# Altium footprint library Connectors.PcbLib: 147 footprints (part 4 of 10)
Each footprint in its own frame and in the unit in brackets; x right, y up, seen from the top. Pads: shape width x height; smd on the part's side, far side on the other; paste and mask are expansions set on the pad; w line width, h text height; cw(c..) or ccw(c..) is an arc to the next point about the centre after c.
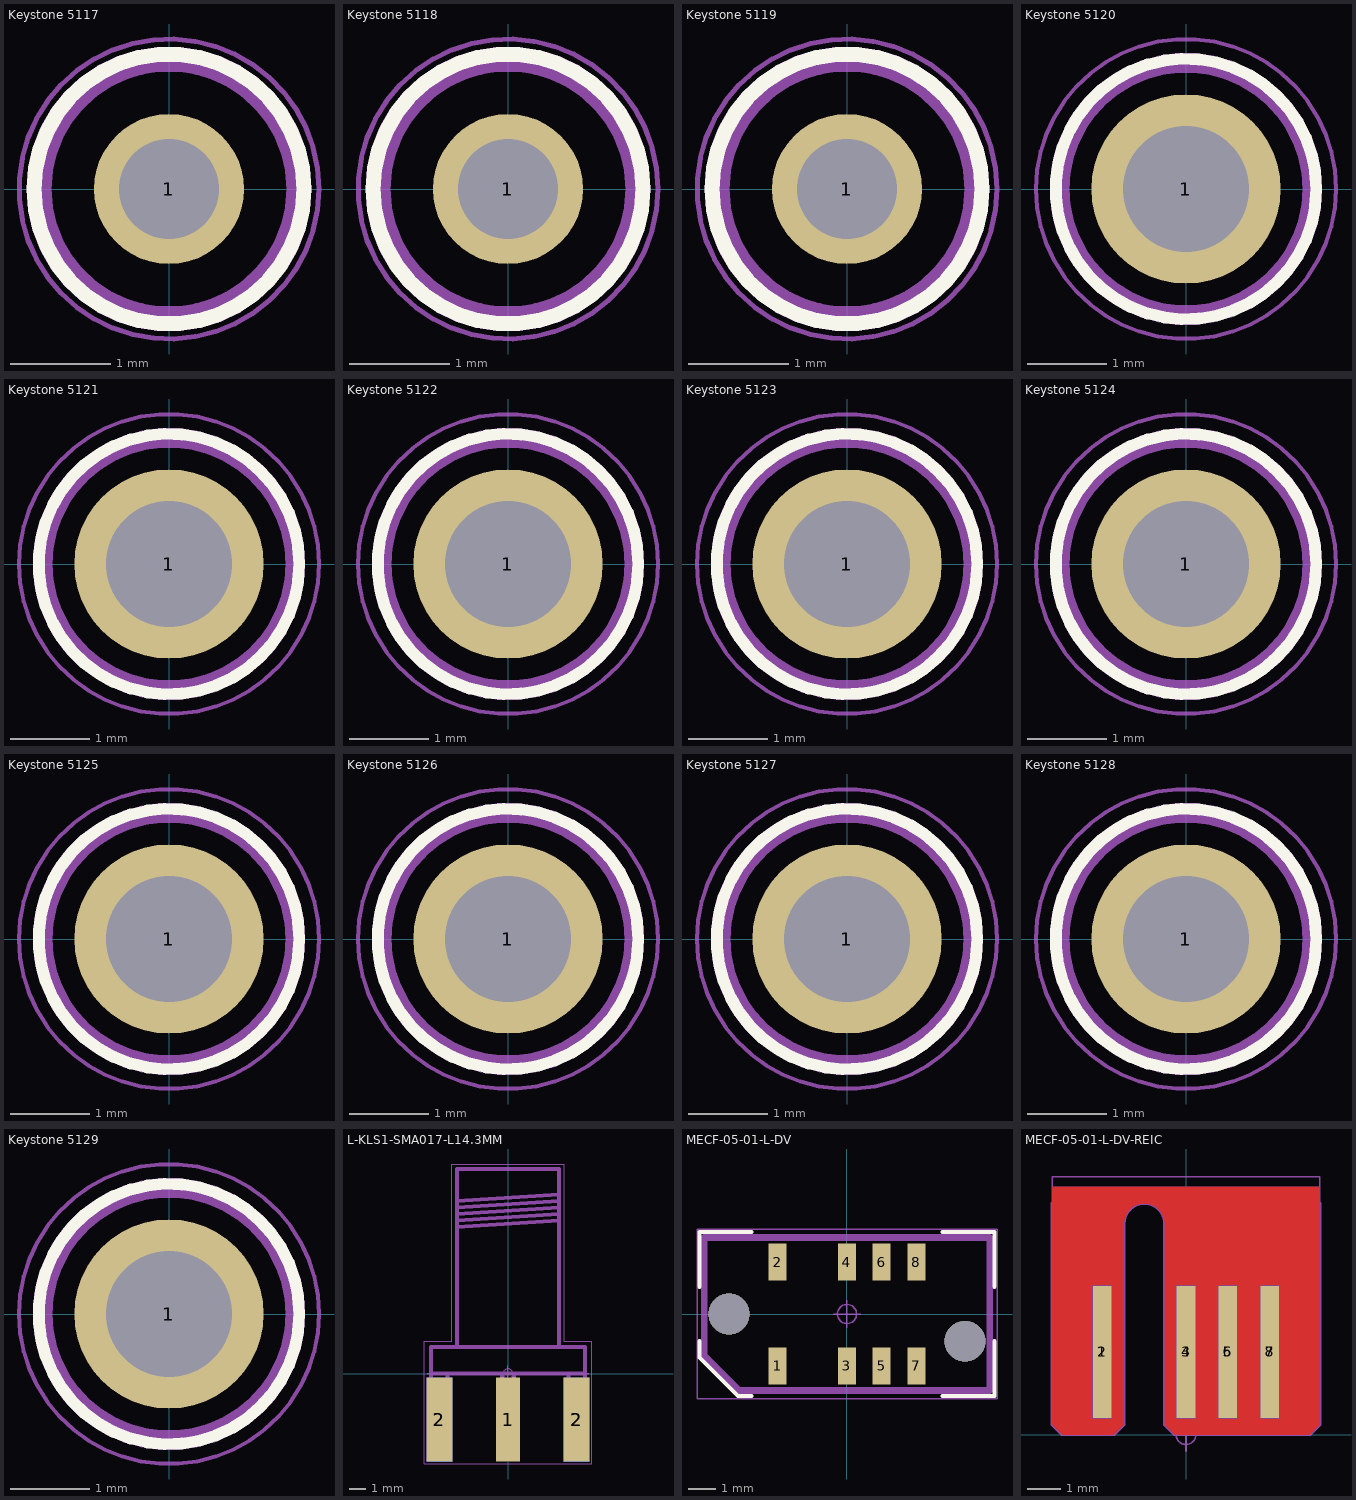
[diagram p3: the footprints below, top view; thin cyan lines are the x and y axes]

## Keystone 5117 [mm] "Thru Hole Mount Test Point, Miniature, .010 (.25) ? .020 (.51) Phosphor Bronze, Silver Plate, Nylon 46, UL Rated 94V-0, .040 (1.0) Diameter, Blue"
height 4.6
pads (1):
  round 1.5 hole 1: 1(0,0)
Top Overlay:
  circle w0.15: c0,0 r1.35
Top Assembly:
  circle w0.25: c0,0 r1.3
  text ".Designator" at -3.378,-0.339 h1.5
Top Courtyard:
  circle w0.05: c0,0 r1.5
  circle w0.05: c0,0 r0.35
  lines w0.05: -0.5,0 0.5,0 ; 0,-0.5 0,0.5
3D body "5117--3DModel-STEP-630548.STEP": height 4.63, standoff -2.99, extent -1.261,-1.27 1.261,1.27

## Keystone 5118 [mm] "Thru Hole Mount Test Point, Miniature, .010 (.25) ? .020 (.51) Phosphor Bronze, Silver Plate, Nylon 46, UL Rated 94V-0, .040 (1.0) Diameter, Grey"
height 4.6
pads (1):
  round 1.5 hole 1: 1(0,0)
Top Overlay:
  circle w0.15: c0,0 r1.35
Top Assembly:
  circle w0.25: c0,0 r1.3
  text ".Designator" at -3.378,-0.339 h1.5
Top Courtyard:
  circle w0.05: c0,0 r0.35
  circle w0.05: c0,0 r1.5
  lines w0.05: -0.5,0 0.5,0 ; 0,-0.5 0,0.5
3D body "5118--3DModel-STEP-630548.STEP": height 4.63, standoff -2.99, extent -1.261,-1.27 1.261,1.27

## Keystone 5119 [mm] "Thru Hole Mount Test Point, Miniature, .010 (.25) ? .020 (.51) Phosphor Bronze, Silver Plate, Nylon 46, UL Rated 94V-0, .040 (1.0) Diameter, Purple"
height 4.6
pads (1):
  round 1.5 hole 1: 1(0,0)
Top Overlay:
  circle w0.15: c0,0 r1.35
Top Assembly:
  circle w0.25: c0,0 r1.3
  text ".Designator" at -3.378,-0.339 h1.5
Top Courtyard:
  circle w0.05: c0,0 r0.35
  circle w0.05: c0,0 r1.5
  lines w0.05: -0.5,0 0.5,0 ; 0,-0.5 0,0.5
3D body "5119--3DModel-STEP-630548.STEP": height 4.63, standoff -2.99, extent -1.261,-1.27 1.261,1.27

## Keystone 5120 [mm] "Thru Hole Mount Test Point, Compact, .015 (.38) ? .032 (.81) Phosphor Bronze, Silver Plate, Nylon 46, UL Rated 94V-0, .063 (1.6) Diameter, Brown"
height 5.6
pads (1):
  round 2.4 hole 1.6: 1(0,0)
Top Overlay:
  circle w0.15: c0,0 r1.65
Top Assembly:
  circle w0.25: c0,0 r1.6
  text ".Designator" at -3.378,-0.339 h1.5
Top Courtyard:
  circle w0.05: c0,0 r1.9
  circle w0.05: c0,0 r0.35
  lines w0.05: -0.5,0 0.5,0 ; 0,-0.5 0,0.5
3D body "5120--3DModel-STEP-630548.STEP": height 5.48, standoff -3.43, extent -1.576,-1.587 1.576,1.588

## Keystone 5121 [mm] "Thru Hole Mount Test Point, Compact, .015 (.38) ? .032 (.81) Phosphor Bronze, Silver Plate, Nylon 46, UL Rated 94V-0, .063 (1.6) Diameter, Green"
height 5.6
pads (1):
  round 2.4 hole 1.6: 1(0,0)
Top Overlay:
  circle w0.15: c0,0 r1.65
Top Assembly:
  circle w0.25: c0,0 r1.6
  text ".Designator" at -3.378,-0.339 h1.5
Top Courtyard:
  circle w0.05: c0,0 r0.35
  circle w0.05: c0,0 r1.9
  lines w0.05: -0.5,0 0.5,0 ; 0,-0.5 0,0.5
3D body "5121--3DModel-STEP-630548.STEP": height 5.48, standoff -3.43, extent -1.576,-1.587 1.576,1.588

## Keystone 5122 [mm] "Thru Hole Mount Test Point, Compact, .015 (.38) ? .032 (.81) Phosphor Bronze, Silver Plate, Nylon 46, UL Rated 94V-0, .063 (1.6) Diameter, Blue"
height 5.6
pads (1):
  round 2.4 hole 1.6: 1(0,0)
Top Overlay:
  circle w0.15: c0,0 r1.65
Top Assembly:
  circle w0.25: c0,0 r1.6
  text ".Designator" at -3.378,-0.339 h1.5
Top Courtyard:
  circle w0.05: c0,0 r1.9
  circle w0.05: c0,0 r0.35
  lines w0.05: -0.5,0 0.5,0 ; 0,-0.5 0,0.5
3D body "5122--3DModel-STEP-630548.STEP": height 5.48, standoff -3.43, extent -1.576,-1.587 1.576,1.588

## Keystone 5123 [mm] "Thru Hole Mount Test Point, Compact, .015 (.38) ? .032 (.81) Phosphor Bronze, Silver Plate, Nylon 46, UL Rated 94V-0, .063 (1.6) Diameter, Grey"
height 5.6
pads (1):
  round 2.4 hole 1.6: 1(0,0)
Top Overlay:
  circle w0.15: c0,0 r1.65
Top Assembly:
  circle w0.25: c0,0 r1.6
  text ".Designator" at -3.378,-0.339 h1.5
Top Courtyard:
  circle w0.05: c0,0 r0.35
  circle w0.05: c0,0 r1.9
  lines w0.05: -0.5,0 0.5,0 ; 0,-0.5 0,0.5
3D body "5123--3DModel-STEP-630548.STEP": height 5.48, standoff -3.43, extent -1.576,-1.587 1.576,1.588

## Keystone 5124 [mm] "Thru Hole Mount Test Point, Compact, .015 (.38) ? .032 (.81) Phosphor Bronze, Silver Plate, Nylon 46, UL Rated 94V-0, .063 (1.6) Diameter, Purple"
height 5.6
pads (1):
  round 2.4 hole 1.6: 1(0,0)
Top Overlay:
  circle w0.15: c0,0 r1.65
Top Assembly:
  circle w0.25: c0,0 r1.6
  text ".Designator" at -3.378,-0.339 h1.5
Top Courtyard:
  circle w0.05: c0,0 r1.9
  circle w0.05: c0,0 r0.35
  lines w0.05: -0.5,0 0.5,0 ; 0,-0.5 0,0.5
3D body "5124--3DModel-STEP-630548.STEP": height 5.48, standoff -3.43, extent -1.576,-1.587 1.576,1.588

## Keystone 5125 [mm] "Thru Hole Mount Test Point, Compact, .015 (.38) ? .032 (.81) Phosphor Bronze, Silver Plate, Nylon 46, UL Rated 94V-0, .063 (1.6) Diameter, Brown"
height 8.1
pads (1):
  round 2.4 hole 1.6: 1(0,0)
Top Overlay:
  circle w0.15: c0,0 r1.65
Top Assembly:
  circle w0.25: c0,0 r1.6
  text ".Designator" at -3.378,-0.339 h1.5
Top Courtyard:
  circle w0.05: c0,0 r0.35
  circle w0.05: c0,0 r1.9
  lines w0.05: -0.5,0 0.5,0 ; 0,-0.5 0,0.5
3D body "5125--3DModel-STEP-630548.STEP": height 8.47, standoff -2.94, extent -1.576,-1.587 1.576,1.588

## Keystone 5126 [mm] "Thru Hole Mount Test Point, Compact, .015 (.38) ? .032 (.81) Phosphor Bronze, Silver Plate, Nylon 46, UL Rated 94V-0, .063 (1.6) Diameter, Green"
height 8.1
pads (1):
  round 2.4 hole 1.6: 1(0,0)
Top Overlay:
  circle w0.15: c0,0 r1.65
Top Assembly:
  circle w0.25: c0,0 r1.6
  text ".Designator" at -3.378,-0.339 h1.5
Top Courtyard:
  circle w0.05: c0,0 r1.9
  circle w0.05: c0,0 r0.35
  lines w0.05: -0.5,0 0.5,0 ; 0,-0.5 0,0.5
3D body "5126--3DModel-STEP-630548.STEP": height 8.47, standoff -2.94, extent -1.576,-1.587 1.576,1.588

## Keystone 5127 [mm] "Thru Hole Mount Test Point, Compact, .015 (.38) ? .032 (.81) Phosphor Bronze, Silver Plate, Nylon 46, UL Rated 94V-0, .063 (1.6) Diameter, Blue"
height 8.1
pads (1):
  round 2.4 hole 1.6: 1(0,0)
Top Overlay:
  circle w0.15: c0,0 r1.65
Top Assembly:
  circle w0.25: c0,0 r1.6
  text ".Designator" at -3.378,-0.339 h1.5
Top Courtyard:
  circle w0.05: c0,0 r0.35
  circle w0.05: c0,0 r1.9
  lines w0.05: -0.5,0 0.5,0 ; 0,-0.5 0,0.5
3D body "5127--3DModel-STEP-630548.STEP": height 8.47, standoff -2.94, extent -1.576,-1.587 1.576,1.588

## Keystone 5128 [mm] "Thru Hole Mount Test Point, Compact, .015 (.38) ? .032 (.81) Phosphor Bronze, Silver Plate, Nylon 46, UL Rated 94V-0, .063 (1.6) Diameter, Grey"
height 8.1
pads (1):
  round 2.4 hole 1.6: 1(0,0)
Top Overlay:
  circle w0.15: c0,0 r1.65
Top Assembly:
  circle w0.25: c0,0 r1.6
  text ".Designator" at -3.378,-0.339 h1.5
Top Courtyard:
  circle w0.05: c0,0 r0.35
  circle w0.05: c0,0 r1.9
  lines w0.05: -0.5,0 0.5,0 ; 0,-0.5 0,0.5
3D body "5128--3DModel-STEP-630548.STEP": height 8.47, standoff -2.94, extent -1.576,-1.587 1.576,1.588

## Keystone 5129 [mm] "Thru Hole Mount Test Point, Compact, .015 (.38) ? .032 (.81) Phosphor Bronze, Silver Plate, Nylon 46, UL Rated 94V-0, .063 (1.6) Diameter, Purple"
height 8.1
pads (1):
  round 2.4 hole 1.6: 1(0,0)
Top Overlay:
  circle w0.15: c0,0 r1.65
Top Assembly:
  circle w0.25: c0,0 r1.6
  text ".Designator" at -3.378,-0.339 h1.5
Top Courtyard:
  circle w0.05: c0,0 r0.35
  circle w0.05: c0,0 r1.9
  lines w0.05: -0.5,0 0.5,0 ; 0,-0.5 0,0.5
3D body "5129--3DModel-STEP-630548.STEP": height 8.49, standoff -2.92, extent -1.576,-1.586 1.576,1.589

## L-KLS1-SMA017-L14.3MM [mm] "SMA PCB End Launch, Jack, Female, L17.4mm"
height 4.5
pads (5):
  rect 1.5x5.2 smd: 1(0,-2.85)
  rect 1.6x5.2 smd: 2(-4.25,-2.85) 2(4.25,-2.85)
  rect 1.6x5.2 smd far side: 2(-4.25,-2.85) 2(4.25,-2.85)
Top Assembly:
  lines w0.25: -4.76,0 4.76,0 ; -3.7,0 -3.74,0 -3.74,-4.75 -4.76,-4.75 -4.76,1.65 4.76,1.65 4.76,-4.75 3.74,-4.75 3.74,0 ; -3.175,1.65 -3.175,12.7 3.175,12.7 3.175,1.65 ; -3.175,9.1 3.175,9.498 ; -3.175,9.5 3.175,9.898 ; -3.175,9.9 3.175,10.298 ; -3.175,10.3 3.175,10.698 ; -3.175,10.7 3.175,11.098 ; -0.38,0 -0.38,-4.75 0.38,-4.75 0.38,0
  text ".Designator" at -5.637,4.434 h2.5
Bottom Assembly:
  lines w0.25: -4.76,0 4.76,0 ; -3.7,0 -3.74,0 -3.74,-4.75 -4.76,-4.75 -4.76,1.65 4.76,1.65 4.76,-4.75 3.74,-4.75 3.74,0 ; -3.175,1.65 -3.175,12.7 3.175,12.7 3.175,1.65 ; -3.175,9.1 3.175,9.498 ; -3.175,9.5 3.175,9.898 ; -3.175,9.9 3.175,10.298 ; -3.175,10.3 3.175,10.698 ; -3.175,10.7 3.175,11.098
Board:
  lines w0.1: -5,0 5,0
Top Courtyard:
  circle w0.05: c0,0 r0.3
  lines w0.05: -0.5,0 0.5,0 ; 0,-0.5 0,0.5 ; -5.2,-5.6 -5.2,2 -3.5,2 -3.5,13 3.5,13 3.5,2 5.2,2 5.2,-5.6 -5.2,-5.6
3D body "L-KLS1-SMA017-L14.3MM.STEP": height 4.35, standoff -3.57, extent -4.76,-4.75 4.76,12.7

## MECF-05-01-L-DV [mm] "Samtec MicroEdge 1.57mm Thick 5(4) pos Polatizaied DoubleRow"
height 8.5
pads (8):
  rect 0.66x1.35 smd: 1(-2.54,-1.905) 2(-2.54,1.905) 3(0,-1.905) 4(0,1.905) 5(1.27,-1.905) 6(1.27,1.905) 7(2.54,-1.905) 8(2.54,1.905)
via 4.32,-1 diameter 1.5 hole 1.5
via -4.32,0 diameter 1.5 hole 1.5
Top Overlay:
  lines w0.15: -5.4,-1 -5.4,-1.6 -4,-3 -3.5,-3 ; -5.4,1 -5.4,3 -3.5,3 ; 3.5,-3 5.4,-3 5.4,-1 ; 3.5,3 5.4,3 5.4,1
Top Assembly:
  lines w0.25: -5.23,-1.53 -3.96,-2.8 5.23,-2.8 5.23,2.8 -5.23,2.8 -5.23,-1.53
  text ".Designator" at -3.378,-0.339 h1.5
Top Courtyard:
  circle w0.05: c0,0 r0.35
  lines w0.05: -0.5,0 0.5,0 ; 0,-0.5 0,0.5 ; -5.498,-3.098 5.498,-3.098 5.498,3.098 -5.498,3.098 -5.498,-3.098
3D body "MECF-05-01-L-DV.stp": height 8.8, standoff -1.26, extent -5.234,-2.798 5.231,2.794

## MECF-05-01-L-DV-REIC [mm] "Samtec MicroEdge 1.57mm Thick 5(4) pos Polatizaied DoubleRow Edge Connector"
pads (8):
  rect 0.56x4 smd paste-2539.97 mask+0.102: 1(-2.54,2.5) 3(0,2.5) 5(1.27,2.5) 7(2.54,2.5)
  rect 0.56x4 smd far side paste-2539.97 mask+0.102: 2(-2.54,2.5) 4(0,2.5) 6(1.27,2.5) 8(2.54,2.5)
Top Layer:
  pour cut-out: -3.75,0 -4.05,0.3 -4.05,7.5 4.05,7.5 4.05,0.3 3.75,0 -0.34,0 -0.64,0.3 -0.64,6.38 -0.652,6.501 -0.744,6.724 -0.916,6.896 -1.139,6.988 -1.381,6.988 -1.604,6.896 -1.776,6.724 -1.868,6.501 -1.88,6.38 -1.88,0.3 -2.18,0
Bottom Layer:
  pour cut-out: -3.75,0 -4.05,0.3 -4.05,7.5 4.05,7.5 4.05,0.3 3.75,0 -0.34,0 -0.64,0.3 -0.64,6.38 -0.652,6.501 -0.744,6.724 -0.916,6.896 -1.139,6.988 -1.381,6.988 -1.604,6.896 -1.776,6.724 -1.868,6.501 -1.88,6.38 -1.88,0.3 -2.18,0
Top Solder:
  region: -3.75,0 -4.05,0.3 -4.05,7.5 4.05,7.5 4.05,0.3 3.75,0 -0.34,0 -0.64,0.3 -0.64,6.38 -0.652,6.501 -0.744,6.724 -0.916,6.896 -1.139,6.988 -1.381,6.988 -1.604,6.896 -1.776,6.724 -1.868,6.501 -1.88,6.38 -1.88,0.3 -2.18,0
Bottom Solder:
  region: -3.75,0 -4.05,0.3 -4.05,7.5 4.05,7.5 4.05,0.3 3.75,0 -0.34,0 -0.64,0.3 -0.64,6.38 -0.652,6.501 -0.744,6.724 -0.916,6.896 -1.139,6.988 -1.381,6.988 -1.604,6.896 -1.776,6.724 -1.868,6.501 -1.88,6.38 -1.88,0.3 -2.18,0
Board:
  lines w0.1: -4.05,7 -4.05,0.3 -3.75,0 -2.18,0 -1.88,0.3 -1.88,6.38 cw(c-1.26,6.38) -0.64,6.38 -0.64,0.3 -0.34,0 3.75,0 4.05,0.3 4.05,7
Top Courtyard:
  circle w0.05: c0,0 r0.3
  lines w0.05: 0,-0.5 0,0.5 ; -4.05,0.3 -3.75,0 -2.18,0 -1.88,0.3 -1.88,6.38 cw(c-1.26,6.38) -0.64,6.38 -0.64,0.3 -0.34,0 3.75,0 4.05,0.3 4.05,7.8 -4.05,7.8 -4.05,0.3
Bottom Courtyard:
  circle w0.05: c0,0 r0.3
  lines w0.05: 0,-0.5 0,0.5 ; -4.05,0.3 -3.75,0 -2.18,0 -1.88,0.3 -1.88,6.38 cw(c-1.26,6.38) -0.64,6.38 -0.64,0.3 -0.34,0 3.75,0 4.05,0.3 4.05,7.8 -4.05,7.8 -4.05,0.3